# Altium integrated library NSC MiscPower.IntLib: 740 symbols (part 5 of 19)
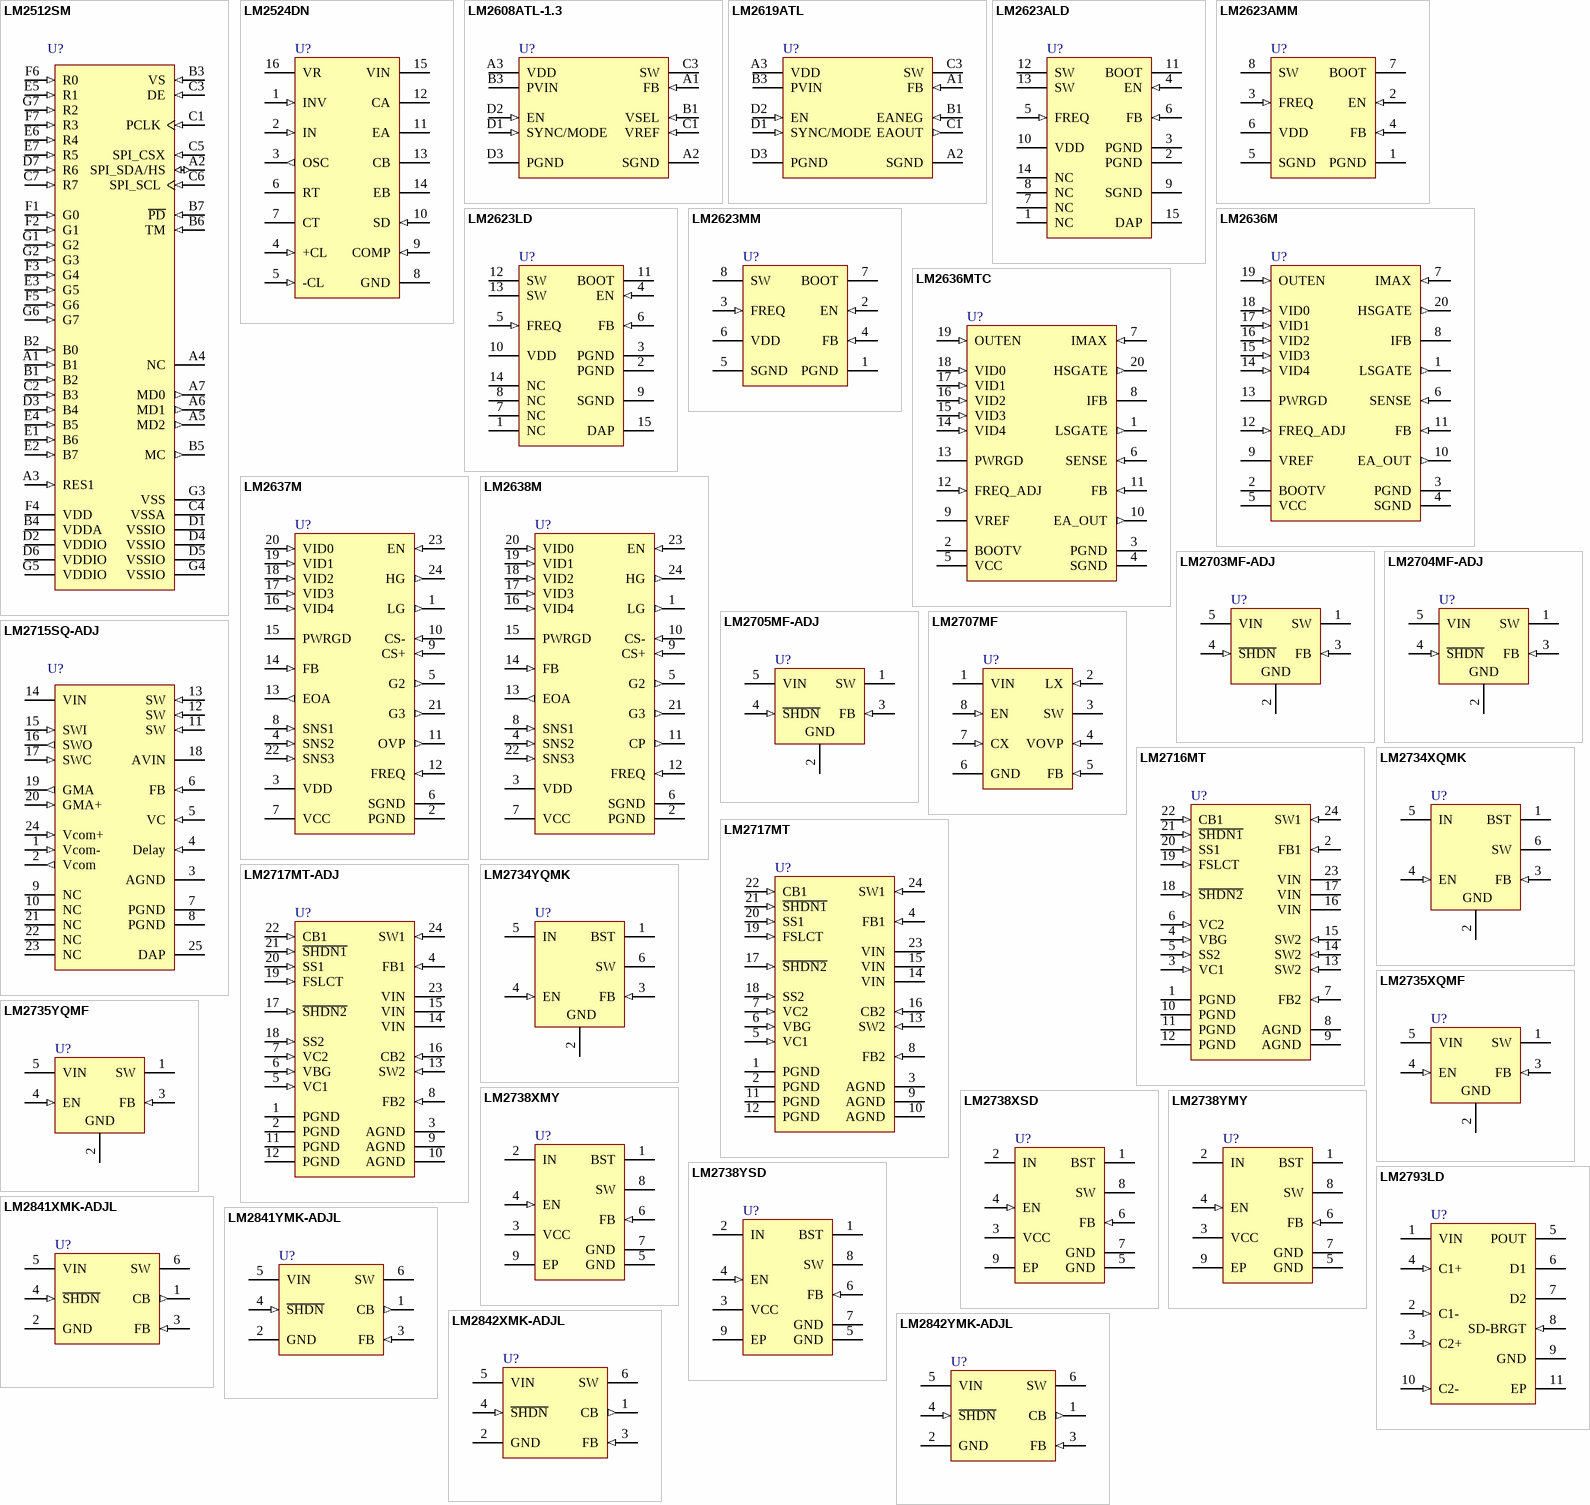
[diagram p29: symbols LM2512SM to LM2842YMK-ADJL]

## LM2637M
designator U?
Motherboard Power Supply Solution with a 5-Bit Programmable Switching Controller and Two Linear Regulator Controllers; PartNumber: LM2637M; Manufacturer: National Semiconductor; CompType: MiscPower; PackageTopMarking: NSUZXYTT*LM2637M; Published: 4-Dec-2008; DatasheetVersion: Nov-2004; PackageVersion: revF, Apr-1990; PackageReference: M24B; Publisher: Altium Limited; PackageDescription: Molded Package, S.O., .300in Wide, 24 Lead; RoHS: Y; PinCount: 24; DigiKeyPartNumber: LM2637M-ND; ComponentLink1Description: LM2637 Datasheet; ComponentLink1URL: http://www.national.com/ds/LM/LM2637.pdf; ComponentLink2Description: LM2637 Web Page; ComponentLink2URL: http://www.national.com/pf/LM/LM2637.html; ComponentLink3Description: M24B Package Page; ComponentLink3URL: http://www.national.com/packaging/folders/m24b.html
footprint M24B_N (SOIC, 24-Leads, Body 15.4x7.5mm, Pitch 1.27mm, IPC Medium Density)
footprint M24B_L (SOIC, 24-Leads, Body 15.4x7.5mm, Pitch 1.27mm, IPC High Density)
footprint M24B_M (SOIC, 24-Leads, Body 15.4x7.5mm, Pitch 1.27mm, IPC Low Density)
pins: 1 LG (out), 2 PGND (power), 3 VDD (power), 4 SNS2 (in), 5 G2 (out), 6 SGND (power), 7 VCC (power), 8 SNS1 (in), 9 CS+ (in), 10 CS- (in), 11 OVP (out), 12 FREQ (in), 13 EOA (out), 14 FB (in), 15 PWRGD (oc), 16 VID4 (in), 17 VID3 (in), 18 VID2 (in), 19 VID1 (in), 20 VID0 (in), 21 G3 (out), 22 SNS3 (in), 23 EN (in), 24 HG (out)

## LM2638M
designator U?
Motherboard Power Supply Solution with a 5-Bit Programmable Switching Controller and Two Linear Regulator Controllers; PartNumber: LM2638M; Manufacturer: National Semiconductor; CompType: MiscPower; PackageTopMarking: NSUZXYTT*LM2638M; Published: 4-Dec-2008; DatasheetVersion: May-1999; PackageVersion: revF, Apr-1990; PackageReference: M24B; Publisher: Altium Limited; PackageDescription: Molded Package, S.O., .300in Wide, 24 Lead; RoHS: N; PinCount: 24; DigiKeyPartNumber: LM2638M-ND; ComponentLink1Description: LM2638 Datasheet; ComponentLink1URL: http://www.national.com/ds/LM/LM2638.pdf; ComponentLink2Description: LM2638 Web Page; ComponentLink2URL: http://www.national.com/pf/LM/LM2638.html; ComponentLink3Description: M24B Package Page; ComponentLink3URL: http://www.national.com/packaging/folders/m24b.html
footprint M24B_N (SOIC, 24-Leads, Body 15.4x7.5mm, Pitch 1.27mm, IPC Medium Density)
footprint M24B_L (SOIC, 24-Leads, Body 15.4x7.5mm, Pitch 1.27mm, IPC High Density)
footprint M24B_M (SOIC, 24-Leads, Body 15.4x7.5mm, Pitch 1.27mm, IPC Low Density)
pins: 1 LG (out), 2 PGND (power), 3 VDD (power), 4 SNS2 (in), 5 G2 (out), 6 SGND (power), 7 VCC (power), 8 SNS1 (in), 9 CS+ (in), 10 CS- (in), 11 CP (out), 12 FREQ (in), 13 EOA (out), 14 FB (in), 15 PWRGD (oc), 16 VID4 (in), 17 VID3 (in), 18 VID2 (in), 19 VID1 (in), 20 VID0 (in), 21 G3 (out), 22 SNS3 (in), 23 EN (in), 24 HG (out)

## LM2703MF-ADJ
designator U?
Micropower Step-Up DC/DC Converter with 350mA Peak Current Limit; PartNumber: LM2703MF-ADJ; Manufacturer: National Semiconductor; CompType: MiscPower; PackageTopMarking: S48B*XTT; PowerWise: N; Published: 4-Dec-2008; DatasheetVersion: Jun-2006; PackageVersion: revD, Aug-2008; PackageReference: MF05A; Publisher: Altium Limited; PackageDescription: Molded SOT-23, .115 x .063 x .040 in Body, 5 Lead, .0375 in Pitch; RoHS: O; PinCount: 5; DigiKeyPartNumber: LM2703MF-ADJCT-ND; ComponentLink1Description: LM2703 Datasheet; ComponentLink1URL: http://www.national.com/ds/LM/LM2703.pdf; ComponentLink2Description: LM2703 Web Page; ComponentLink2URL: http://www.national.com/pf/LM/LM2703.html; ComponentLink3Description: MF05A Package Page; ComponentLink3URL: http://www.national.com/packaging/folders/mf05a.html
footprint MF05A_N (SOT23, 5-Leads, Body 2.9x1.6mm, Pitch 0.95mm, Lead Span 2.8mm, IPC Medium Density)
footprint MF05A_L (SOT23, 5-Leads, Body 2.9x1.6mm, Pitch 0.95mm, Lead Span 2.8mm, IPC High Density)
footprint MF05A_M (SOT23, 5-Leads, Body 2.9x1.6mm, Pitch 0.95mm, Lead Span 2.8mm, IPC Low Density)
pins: 1 SW (power), 2 GND (power), 3 FB (in), 4 ~{SHDN} (in), 5 VIN (power)

## LM2704MF-ADJ
designator U?
Micropower Step-up DC/DC Converter with 550mA Peak Current Limit; PartNumber: LM2704MF-ADJ; Manufacturer: National Semiconductor; CompType: MiscPower; PackageTopMarking: S28B*XTT; PowerWise: N; Published: 4-Dec-2008; DatasheetVersion: Apr-2003; PackageVersion: revD, Aug-2008; PackageReference: MF05A; Publisher: Altium Limited; PackageDescription: Molded SOT-23, .115 x .063 x .040 in Body, 5 Lead, .0375 in Pitch; RoHS: O; PinCount: 5; DigiKeyPartNumber: LM2704MF-ADJCT-ND; ComponentLink1Description: LM2704 Datasheet; ComponentLink1URL: http://www.national.com/ds/LM/LM2704.pdf; ComponentLink2Description: LM2704 Web Page; ComponentLink2URL: http://www.national.com/pf/LM/LM2704.html; ComponentLink3Description: MF05A Package Page; ComponentLink3URL: http://www.national.com/packaging/folders/mf05a.html
footprint MF05A_N (SOT23, 5-Leads, Body 2.9x1.6mm, Pitch 0.95mm, Lead Span 2.8mm, IPC Medium Density)
footprint MF05A_L (SOT23, 5-Leads, Body 2.9x1.6mm, Pitch 0.95mm, Lead Span 2.8mm, IPC High Density)
footprint MF05A_M (SOT23, 5-Leads, Body 2.9x1.6mm, Pitch 0.95mm, Lead Span 2.8mm, IPC Low Density)
pins: 1 SW (power), 2 GND (power), 3 FB (in), 4 ~{SHDN} (in), 5 VIN (power)

## LM2705MF-ADJ
designator U?
Micropower Step-up DC/DC Converter with 150mA Peak Current Limit; PartNumber: LM2705MF-ADJ; Manufacturer: National Semiconductor; CompType: MiscPower; PackageTopMarking: S59B*XTT; PowerWise: N; Published: 4-Dec-2008; DatasheetVersion: Aug-2007; PackageVersion: revD, Aug-2008; PackageReference: MF05A; Publisher: Altium Limited; PackageDescription: Molded SOT-23, .115 x .063 x .040 in Body, 5 Lead, .0375 in Pitch; RoHS: O; PinCount: 5; DigiKeyPartNumber: LM2705MF-ADJCT-ND; ComponentLink1Description: LM2705 Datasheet; ComponentLink1URL: http://www.national.com/ds/LM/LM2705.pdf; ComponentLink2Description: LM2705 Web Page; ComponentLink2URL: http://www.national.com/pf/LM/LM2705.html; ComponentLink3Description: MF05A Package Page; ComponentLink3URL: http://www.national.com/packaging/folders/mf05a.html
footprint MF05A_N (SOT23, 5-Leads, Body 2.9x1.6mm, Pitch 0.95mm, Lead Span 2.8mm, IPC Medium Density)
footprint MF05A_L (SOT23, 5-Leads, Body 2.9x1.6mm, Pitch 0.95mm, Lead Span 2.8mm, IPC High Density)
footprint MF05A_M (SOT23, 5-Leads, Body 2.9x1.6mm, Pitch 0.95mm, Lead Span 2.8mm, IPC Low Density)
pins: 1 SW (power), 2 GND (power), 3 FB (in), 4 ~{SHDN} (in), 5 VIN (power)

## LM2707MF
designator U?
Inductive-Boost Series LED Driver with Programmable Oscillator Frequency; PartNumber: LM2707MF; Manufacturer: National Semiconductor; CompType: MiscPower; PackageTopMarking: S0TB*XTT; Published: 4-Dec-2008; DatasheetVersion: Feb-2005; PackageVersion: revA, Nov-2003; PackageReference: MF08A; Publisher: Altium Limited; PackageDescription: Molded SOT-23, 3.5 x 2.2 x 1.2mm Body, 8 Lead, 0.8mm Pitch; RoHS: Y; PinCount: 8; DigiKeyPartNumber: LM2707MF-ND; ComponentLink1Description: LM2707 Datasheet; ComponentLink1URL: http://www.national.com/ds/LM/LM2707.pdf; ComponentLink2Description: LM2707 Web Page; ComponentLink2URL: http://www.national.com/pf/LM/LM2707.html; ComponentLink3Description: MF08A Package Page; ComponentLink3URL: http://www.national.com/packaging/folders/mf08a.html
footprint MF08A_N (SOP, 8-Leads, Body 3.5x2.2mm, Pitch 0.8mm, IPC Medium Density)
footprint MF08A_L (SOP, 8-Leads, Body 3.5x2.2mm, Pitch 0.8mm, IPC High Density)
footprint MF08A_M (SOP, 8-Leads, Body 3.5x2.2mm, Pitch 0.8mm, IPC Low Density)
pins: 1 VIN (power), 2 LX (in), 3 SW (power), 4 VOVP (in), 5 FB (in), 6 GND (power), 7 CX (in), 8 EN (in)

## LM2715SQ-ADJ
designator U?
TFT Panel Module; PartNumber: LM2715SQ-ADJ; Manufacturer: National Semiconductor; CompType: MiscPower; PackageTopMarking: NS*UZXYTT*L2715SQ; PowerWise: N; Published: 4-Dec-2008; DatasheetVersion: Apr-2006; PackageVersion: revA, Oct-2003; PackageReference: SQA24B; Publisher: Altium Limited; PackageDescription: LLP, Plastic, Quad, 5 x 4 x 0.8mm Body, 24 Lead, 0.5mm Pitch, No Pullback; RoHS: Y; PinCount: 24; DigiKeyPartNumber: LM2715SQ-ADJ-ND; Code_JEDEC: MO-220-WGHD-1; ComponentLink1Description: LM2715 Datasheet; ComponentLink1URL: http://www.national.com/ds/LM/LM2715.pdf; ComponentLink2Description: LM2715 Web Page; ComponentLink2URL: http://www.national.com/pf/LM/LM2715.html; ComponentLink3Description: SQA24B Package Page; ComponentLink3URL: http://www.national.com/packaging/folders/sqa24b.html
footprint SQA24B (QFN, 24-Leads, Body 5x4mm, Pitch 0.5mm, NSC Recommended)
pins: 1 Vcom- (in) "Vcom Amplifier negative input.", 2 Vcom (out) "Vcom Amplifier output.", 3 AGND (power) "Analog Ground. Connect to AGND plane.", 4 Delay (in) "PMOS switch delay.", 5 VC (in) "Boost Compensation Network Connection.", 6 FB (in) "Output Voltage Feedback input.", 7 PGND (power) "Power Ground. Connect to PGND plane.", 8 PGND (power) "Power Ground. Connect to PGND plane.", 9 NC "Not internally connected. Leave floating or connect to Ground.", 10 NC "Not internally connected. Leave floating or connect to Ground.", 11 SW (in) "NMOS power switch input.", 12 SW (in) "NMOS power switch input.", 13 SW (in) "NMOS power switch input.", 14 VIN (power) "Main power input, step-up and switch circuitry.", 15 SWI (in) "PMOS switch input.", 16 SWO (out) "PMOS switch output.", 17 SWC (in) "PMOS switch control pin.", 18 AVIN (power) "Analog power input (buffers).", 19 GMA (out) "Gamma buffer output.", 20 GMA+ (in) "Gamma buffer input.", 21 NC "Not internally connected. Leave floating or connect to Ground.", 22 NC "Not internally connected. Leave floating or connect to Ground.", 23 NC "Not internally connected. Leave floating or connect to Ground.", 24 Vcom+ (in) "Vcom Amplifier positive input.", 25 DAP (power) "Center Die Attach Pad. Connect directly to AGND and PGND pins beneath the device."

## LM2716MT
designator U?
Dual (Step-Up and Step-Down) PWM DC/DC Converter; PartNumber: LM2716MT; Manufacturer: National Semiconductor; CompType: MiscPower; PackageTopMarking: NSUZXYTT*LM2716MT; Published: 4-Dec-2008; DatasheetVersion: Nov-2005; PackageVersion: revE, Mar-2003; PackageReference: MTC24; Publisher: Altium Limited; PackageDescription: Molded TSSOP, Jedec, 7.8 x 4.4 x 0.9mm Body, 24 Lead, 0.65mm Pitch; RoHS: Y; PinCount: 24; DigiKeyPartNumber: LM2716MT-ND; Code_JEDEC: MO-153-AD; ComponentLink1Description: LM2716 Datasheet; ComponentLink1URL: http://www.national.com/ds/LM/LM2716.pdf; ComponentLink2Description: LM2716 Web Page; ComponentLink2URL: http://www.national.com/pf/LM/LM2716.html; ComponentLink3Description: MTC24 Package Page; ComponentLink3URL: http://www.national.com/packaging/folders/mtc24.html
footprint MTC24_N (TSOP, 24-Leads, Body 7.8x4.4mm, Pitch 0.65mm, IPC Medium Density)
footprint MTC24_L (TSOP, 24-Leads, Body 7.8x4.4mm, Pitch 0.65mm, IPC High Density)
footprint MTC24_M (TSOP, 24-Leads, Body 7.8x4.4mm, Pitch 0.65mm, IPC Low Density)
pins: 1 PGND (power) "Power ground. AGND and PGND pins must be connected together directly at the part.", 2 FB1 (in) "Buck output voltage feedback input.", 3 VC1 (in) "Buck compensation network connection. Connected to the output of the voltage error amplifier.", 4 VBG (in) "Bandgap connection.", 5 SS2 (in) "Boost soft start pin.", 6 VC2 (in) "Boost compensation network connection. Connected to the output of the voltage error amplifier.", 7 FB2 (in) "Boost output voltage feedback input.", 8 AGND (power) "Analog ground. AGND and PGND pins must be connected together directly at the part.", 9 AGND (power) "Analog ground. AGND and PGND pins must be connected together directly at the part.", 10 PGND (power) "Power ground. AGND and PGND pins must be connected together directly at the part.", 11 PGND (power) "Power ground. AGND and PGND pins must be connected together directly at the part.", 12 PGND (power) "Power ground. AGND and PGND pins must be connected together directly at the part.", 13 SW2 (in) "Boost power switch input.", 14 SW2 (in) "Boost power switch input.", 15 SW2 (in) "Boost power switch input.", 16 VIN (power) "Analog power input. VIN pins must be connected together directly at the DUT.", 17 VIN (power) "Analog power input. VIN pins must be connected together directly at the DUT.", 18 ~{SHDN2} (in) "Shutdown pin for Boost converter. Active low.", 19 FSLCT (in) "Switching frequency select input.", 20 SS1 (in) "Buck soft start pin.", 21 ~{SHDN1} (in) "Shutdown pin for Buck converter. Active low.", 22 CB1 (in) "Buck converter bootstrap capacitor connection.", 23 VIN (power) "Analog power input. VIN pins must be connected together directly at the DUT.", 24 SW1 (in) "Buck power switch input. Switch connected between VIN pins and SW1 pin."

## LM2717MT
designator U?
Dual Step-Down DC/DC Converter; PartNumber: LM2717MT; Manufacturer: National Semiconductor; CompType: MiscPower; PackageTopMarking: NSUZXYTT*LM2717MT; PowerWise: N; Published: 4-Dec-2008; DatasheetVersion: Mar-2008; PackageVersion: revE, Mar-2003; PackageReference: MTC24; Publisher: Altium Limited; PackageDescription: Molded TSSOP, Jedec, 7.8 x 4.4 x 0.9mm Body, 24 Lead, 0.65mm Pitch; RoHS: Y; PinCount: 24; DigiKeyPartNumber: LM2717MT-ND; Code_JEDEC: MO-153-AD; ComponentLink1Description: LM2717 Datasheet; ComponentLink1URL: http://www.national.com/ds/LM/LM2717.pdf; ComponentLink2Description: LM2717 Web Page; ComponentLink2URL: http://www.national.com/pf/LM/LM2717.html; ComponentLink3Description: MTC24 Package Page; ComponentLink3URL: http://www.national.com/packaging/folders/mtc24.html
footprint MTC24_N (TSOP, 24-Leads, Body 7.8x4.4mm, Pitch 0.65mm, IPC Medium Density)
footprint MTC24_L (TSOP, 24-Leads, Body 7.8x4.4mm, Pitch 0.65mm, IPC High Density)
footprint MTC24_M (TSOP, 24-Leads, Body 7.8x4.4mm, Pitch 0.65mm, IPC Low Density)
pins: 1 PGND (power) "Power ground. AGND and PGND pins must be connected together directly at the part.", 2 PGND (power) "Power ground. AGND and PGND pins must be connected together directly at the part.", 3 AGND (power) "Analog ground. AGND and PGND pins must be connected together directly at the part.", 4 FB1 (in) "Fixed buck output voltage feedback input.", 5 VC1 (in) "Fixed buck compensation network connection. Connected to the output of the voltage error amplifier.", 6 VBG (in) "Bandgap connection.", 7 VC2 (in) "Adjustable buck compensation network connection.", 8 FB2 (in) "Adjustable buck output voltage feedback input.", 9 AGND (power) "Analog ground. AGND and PGND pins must be connected together directly at the part.", 10 AGND (power) "Analog ground. AGND and PGND pins must be connected together directly at the part.", 11 PGND (power) "Power ground. AGND and PGND pins must be connected together directly at the part.", 12 PGND (power) "Power ground. AGND and PGND pins must be connected together directly at the part.", 13 SW2 (in) "Adjustable buck power switch input.", 14 VIN (power) "Analog power input.", 15 VIN (power) "Analog power input.", 16 CB2 (in) "Adjustable buck converter bootstrap capacitor connection.", 17 ~{SHDN2} (in) "Shutdown pin for adjustable buck converter. Active low.", 18 SS2 (in) "Adjustable buck soft start pin.", 19 FSLCT (in) "Switching frequency select input.", 20 SS1 (in) "Fixed buck soft start pin.", 21 ~{SHDN1} (in) "Shutdown pin for fixed buck converter. Active low.", 22 CB1 (in) "Fixed buck converter bootstrap capacitor connection.", 23 VIN (power) "Analog power input.", 24 SW1 (in) "Fixed buck power switch input. Switch connected between VIN pins and SW1 pin."

## LM2717MT-ADJ
designator U?
Dual Step-Down DC/DC Converter; PartNumber: LM2717MT-ADJ; Manufacturer: National Semiconductor; CompType: MiscPower; PackageTopMarking: NSUZXYTT*LM2717*MT-ADJ; PowerWise: N; Published: 4-Dec-2008; DatasheetVersion: Mar-2008; PackageVersion: revE, Mar-2003; PackageReference: MTC24; Publisher: Altium Limited; PackageDescription: Molded TSSOP, Jedec, 7.8 x 4.4 x 0.9mm Body, 24 Lead, 0.65mm Pitch; RoHS: Y; PinCount: 24; DigiKeyPartNumber: LM2717MT-ADJ-ND; Code_JEDEC: MO-153-AD; ComponentLink1Description: LM2717 Datasheet; ComponentLink1URL: http://www.national.com/ds/LM/LM2717-ADJ.pdf; ComponentLink2Description: LM2717 Web Page; ComponentLink2URL: http://www.national.com/pf/LM/LM2717.html; ComponentLink3Description: MTC24 Package Page; ComponentLink3URL: http://www.national.com/packaging/folders/mtc24.html
footprint MTC24_N (TSOP, 24-Leads, Body 7.8x4.4mm, Pitch 0.65mm, IPC Medium Density)
footprint MTC24_L (TSOP, 24-Leads, Body 7.8x4.4mm, Pitch 0.65mm, IPC High Density)
footprint MTC24_M (TSOP, 24-Leads, Body 7.8x4.4mm, Pitch 0.65mm, IPC Low Density)
pins: 1 PGND (power) "Power ground. AGND and PGND pins must be connected together directly at the part.", 2 PGND (power) "Power ground. AGND and PGND pins must be connected together directly at the part.", 3 AGND (power) "Analog ground. AGND and PGND pins must be connected together directly at the part.", 4 FB1 (in) "Fixed buck output voltage feedback input.", 5 VC1 (in) "Fixed buck compensation network connection. Connected to the output of the voltage error amplifier.", 6 VBG (in) "Bandgap connection.", 7 VC2 (in) "Adjustable buck compensation network connection.", 8 FB2 (in) "Adjustable buck output voltage feedback input.", 9 AGND (power) "Analog ground. AGND and PGND pins must be connected together directly at the part.", 10 AGND (power) "Analog ground. AGND and PGND pins must be connected together directly at the part.", 11 PGND (power) "Power ground. AGND and PGND pins must be connected together directly at the part.", 12 PGND (power) "Power ground. AGND and PGND pins must be connected together directly at the part.", 13 SW2 (in) "Adjustable buck power switch input.", 14 VIN (power) "Analog power input.", 15 VIN (power) "Analog power input.", 16 CB2 (in) "Adjustable buck converter bootstrap capacitor connection.", 17 ~{SHDN2} (in) "Shutdown pin for adjustable buck converter. Active low.", 18 SS2 (in) "Adjustable buck soft start pin.", 19 FSLCT (in) "Switching frequency select input.", 20 SS1 (in) "Fixed buck soft start pin.", 21 ~{SHDN1} (in) "Shutdown pin for fixed buck converter. Active low.", 22 CB1 (in) "Fixed buck converter bootstrap capacitor connection.", 23 VIN (power) "Analog power input.", 24 SW1 (in) "Fixed buck power switch input. Switch connected between VIN pins and SW1 pin."

## LM2734XQMK
designator U?
Thin SOT23 1A Load Step-Down DC-DC Regulator; PartNumber: LM2734XQMK; Manufacturer: National Semiconductor; CompType: MiscPower; PackageTopMarking: SUKB*XTT; PowerWise: N; Published: 4-Dec-2008; DatasheetVersion: Jun-2008; PackageVersion: revD, Jul-2005; PackageReference: MK06A; Publisher: Altium Limited; PackageDescription: Molded TSOT, 2.97 x 1.65 x 0.87mm Body, 6 Lead, 0.95mm Pitch; RoHS: Y; PinCount: 6; DigiKeyPartNumber: LM2734XQMK-ND; Code_JEDEC: MO-193-AA; Code_IPC: SOT26A-6; ComponentLink1Description: LM2734 Datasheet; ComponentLink1URL: http://www.national.com/ds/LM/LM2734.pdf; ComponentLink2Description: LM2734 Web Page; ComponentLink2URL: http://www.national.com/pf/LM/LM2734.html; ComponentLink3Description: MK06A Package Page; ComponentLink3URL: http://www.national.com/packaging/folders/mk06a.html
footprint MK06A_N (SOT23, 6-Leads, Body 3.0x1.7mm, Pitch 0.95mm, Lead Span 2.9mm, IPC Medium Density)
footprint MK06A_L (SOT23, 6-Leads, Body 3.0x1.7mm, Pitch 0.95mm, Lead Span 2.9mm, IPC High Density)
footprint MK06A_M (SOT23, 6-Leads, Body 3.0x1.7mm, Pitch 0.95mm, Lead Span 2.9mm, IPC Low Density)
pins: 1 BST, 2 GND (power), 3 FB (in), 4 EN (in), 5 IN (power), 6 SW (power)

## LM2734YQMK
designator U?
Thin SOT23 1A Load Step-Down DC-DC Regulator; PartNumber: LM2734YQMK; Manufacturer: National Semiconductor; CompType: MiscPower; PackageTopMarking: SVCB*XTT; PowerWise: N; Published: 4-Dec-2008; DatasheetVersion: Jun-2008; PackageVersion: revD, Jul-2005; PackageReference: MK06A; Publisher: Altium Limited; PackageDescription: Molded TSOT, 2.97 x 1.65 x 0.87mm Body, 6 Lead, 0.95mm Pitch; RoHS: Y; PinCount: 6; DigiKeyPartNumber: LM2734YQMK-ND; Code_JEDEC: MO-193-AA; Code_IPC: SOT26A-6; ComponentLink1Description: LM2734 Datasheet; ComponentLink1URL: http://www.national.com/ds/LM/LM2734.pdf; ComponentLink2Description: LM2734 Web Page; ComponentLink2URL: http://www.national.com/pf/LM/LM2734.html; ComponentLink3Description: MK06A Package Page; ComponentLink3URL: http://www.national.com/packaging/folders/mk06a.html
footprint MK06A_N (SOT23, 6-Leads, Body 3.0x1.7mm, Pitch 0.95mm, Lead Span 2.9mm, IPC Medium Density)
footprint MK06A_L (SOT23, 6-Leads, Body 3.0x1.7mm, Pitch 0.95mm, Lead Span 2.9mm, IPC High Density)
footprint MK06A_M (SOT23, 6-Leads, Body 3.0x1.7mm, Pitch 0.95mm, Lead Span 2.9mm, IPC Low Density)
pins: 1 BST, 2 GND (power), 3 FB (in), 4 EN (in), 5 IN (power), 6 SW (power)

## LM2735XQMF
designator U?
520kHz/1.6MHz - Space-Efficient Boost and SEPIC DC-DC Regulator; PartNumber: LM2735XQMF; Manufacturer: National Semiconductor; CompType: MiscPower; PackageTopMarking: SVDB*XTT; PowerWise: N; Published: 29-May-2009; DatasheetVersion: Feb-2009; PackageVersion: revD, Aug-2008; PackageReference: MF05A; Publisher: Altium Limited; PackageDescription: Molded SOT-23, .115 x .063 x .040 in Body, 5 Lead, .0375 in Pitch; RoHS: Y; PinCount: 5; DigiKeyPartNumber: LM2735XQMFCT-ND; ComponentLink1Description: LM2735 Datasheet; ComponentLink1URL: http://www.national.com/ds/LM/LM2735.pdf; ComponentLink2Description: LM2735 Web Page; ComponentLink2URL: http://www.national.com/pf/LM/LM2735.html; ComponentLink3Description: MF05A Package Page; ComponentLink3URL: http://www.national.com/packaging/folders/mf05a.html
footprint MF05A_N (SOT23, 5-Leads, Body 2.9x1.6mm, Pitch 0.95mm, Lead Span 2.8mm, IPC Medium Density)
footprint MF05A_L (SOT23, 5-Leads, Body 2.9x1.6mm, Pitch 0.95mm, Lead Span 2.8mm, IPC High Density)
footprint MF05A_M (SOT23, 5-Leads, Body 2.9x1.6mm, Pitch 0.95mm, Lead Span 2.8mm, IPC Low Density)
pins: 1 SW (power), 2 GND (power), 3 FB (in), 4 EN (in), 5 VIN (power)

## LM2735YQMF
designator U?
520kHz/1.6MHz - Space-Efficient Boost and SEPIC DC-DC Regulator; PartNumber: LM2735YQMF; Manufacturer: National Semiconductor; CompType: MiscPower; PackageTopMarking: SXUB*XTT; PowerWise: N; Published: 29-May-2009; DatasheetVersion: Feb-2009; PackageVersion: revD, Aug-2008; PackageReference: MF05A; Publisher: Altium Limited; PackageDescription: Molded SOT-23, .115 x .063 x .040 in Body, 5 Lead, .0375 in Pitch; RoHS: Y; PinCount: 5; DigiKeyPartNumber: LM2735YQMFCT-ND; ComponentLink1Description: LM2735 Datasheet; ComponentLink1URL: http://www.national.com/ds/LM/LM2735.pdf; ComponentLink2Description: LM2735 Web Page; ComponentLink2URL: http://www.national.com/pf/LM/LM2735.html; ComponentLink3Description: MF05A Package Page; ComponentLink3URL: http://www.national.com/packaging/folders/mf05a.html
footprint MF05A_N (SOT23, 5-Leads, Body 2.9x1.6mm, Pitch 0.95mm, Lead Span 2.8mm, IPC Medium Density)
footprint MF05A_L (SOT23, 5-Leads, Body 2.9x1.6mm, Pitch 0.95mm, Lead Span 2.8mm, IPC High Density)
footprint MF05A_M (SOT23, 5-Leads, Body 2.9x1.6mm, Pitch 0.95mm, Lead Span 2.8mm, IPC Low Density)
pins: 1 SW (power), 2 GND (power), 3 FB (in), 4 EN (in), 5 VIN (power)

## LM2738XMY
designator U?
550kHz/1.6MHz 1.5A Step-Down DC-DC Switching Regulator; PartNumber: LM2738XMY; Manufacturer: National Semiconductor; CompType: MiscPower; PackageTopMarking: ZXTT*STDB; PowerWise: N; Published: 4-Dec-2008; DatasheetVersion: Apr-2008; PackageVersion: revA, Nov-2003; PackageReference: MUY08A; Publisher: Altium Limited; PackageDescription: Molded Mini-SO, Exposed Pad, .118 x .118 x .034in Body, 8 Lead, .0256in Pitch; RoHS: Y; PinCount: 8; DigiKeyPartNumber: LM2738XMYCT-ND; Code_JEDEC: MO-187-AA; ComponentLink1Description: LM2738 Datasheet; ComponentLink1URL: http://www.national.com/ds/LM/LM2738.pdf; ComponentLink2Description: LM2738 Web Page; ComponentLink2URL: http://www.national.com/pf/LM/LM2738.html; ComponentLink3Description: MUY08A Package Page; ComponentLink3URL: http://www.national.com/packaging/folders/muy08a.html
footprint MUY08A_N (TSOP, 8-Leads, Body 3x3mm, Pitch 0.65mm, Exposed Pad, IPC Medium Density)
footprint MUY08A_L (TSOP, 8-Leads, Body 3x3mm, Pitch 0.65mm, Exposed Pad, IPC High Density)
footprint MUY08A_M (TSOP, 8-Leads, Body 3x3mm, Pitch 0.65mm, Exposed Pad, IPC Low Density)
pins: 1 BST, 2 IN (power), 3 VCC (power), 4 EN (in), 5 GND (power), 6 FB (in), 7 GND (power), 8 SW (power), 9 EP (power)

## LM2738XSD
designator U?
550kHz/1.6MHz 1.5A Step-Down DC-DC Switching Regulator; PartNumber: LM2738XSD; Manufacturer: National Semiconductor; CompType: MiscPower; PackageTopMarking: ZXYTT*L237B; PowerWise: N; Published: 4-Dec-2008; DatasheetVersion: Apr-2008; PackageVersion: revA, Aug-2003; PackageReference: SDA08A; Publisher: Altium Limited; PackageDescription: LLP, Plastic, Dual, 3 x 3 x 0.8mm Body, 8 Lead, 0.5mm Pitch, No Pullback; RoHS: Y; PinCount: 8; DigiKeyPartNumber: LM2738XSDCT-ND; ComponentLink1Description: LM2738 Datasheet; ComponentLink1URL: http://www.national.com/ds/LM/LM2738.pdf; ComponentLink2Description: LM2738 Web Page; ComponentLink2URL: http://www.national.com/pf/LM/LM2738.html; ComponentLink3Description: SDA08A Package Page; ComponentLink3URL: http://www.national.com/packaging/folders/sda08a.html
footprint SDA08A (SON, 8-Leads, Body 3x3mm, Pitch 0.5mm, NSC Recommended)
pins: 1 BST, 2 IN (power), 3 VCC (power), 4 EN (in), 5 GND (power), 6 FB (in), 7 GND (power), 8 SW (power), 9 EP (power)

## LM2738YMY
designator U?
550kHz/1.6MHz 1.5A Step-Down DC-DC Switching Regulator; PartNumber: LM2738YMY; Manufacturer: National Semiconductor; CompType: MiscPower; PackageTopMarking: ZXTT*SJBB; PowerWise: N; Published: 4-Dec-2008; DatasheetVersion: Apr-2008; PackageVersion: revA, Nov-2003; PackageReference: MUY08A; Publisher: Altium Limited; PackageDescription: Molded Mini-SO, Exposed Pad, .118 x .118 x .034in Body, 8 Lead, .0256in Pitch; RoHS: Y; PinCount: 8; DigiKeyPartNumber: LM2738YMYCT-ND; Code_JEDEC: MO-187-AA; ComponentLink1Description: LM2738 Datasheet; ComponentLink1URL: http://www.national.com/ds/LM/LM2738.pdf; ComponentLink2Description: LM2738 Web Page; ComponentLink2URL: http://www.national.com/pf/LM/LM2738.html; ComponentLink3Description: MUY08A Package Page; ComponentLink3URL: http://www.national.com/packaging/folders/muy08a.html
footprint MUY08A_N (TSOP, 8-Leads, Body 3x3mm, Pitch 0.65mm, Exposed Pad, IPC Medium Density)
footprint MUY08A_L (TSOP, 8-Leads, Body 3x3mm, Pitch 0.65mm, Exposed Pad, IPC High Density)
footprint MUY08A_M (TSOP, 8-Leads, Body 3x3mm, Pitch 0.65mm, Exposed Pad, IPC Low Density)
pins: 1 BST, 2 IN (power), 3 VCC (power), 4 EN (in), 5 GND (power), 6 FB (in), 7 GND (power), 8 SW (power), 9 EP (power)

## LM2738YSD
designator U?
550kHz/1.6MHz 1.5A Step-Down DC-DC Switching Regulator; PartNumber: LM2738YSD; Manufacturer: National Semiconductor; CompType: MiscPower; PackageTopMarking: ZXYTT*L174B; PowerWise: N; Published: 4-Dec-2008; DatasheetVersion: Apr-2008; PackageVersion: revA, Aug-2003; PackageReference: SDA08A; Publisher: Altium Limited; PackageDescription: LLP, Plastic, Dual, 3 x 3 x 0.8mm Body, 8 Lead, 0.5mm Pitch, No Pullback; RoHS: Y; PinCount: 8; DigiKeyPartNumber: LM2738YSDCT-ND; ComponentLink1Description: LM2738 Datasheet; ComponentLink1URL: http://www.national.com/ds/LM/LM2738.pdf; ComponentLink2Description: LM2738 Web Page; ComponentLink2URL: http://www.national.com/pf/LM/LM2738.html; ComponentLink3Description: SDA08A Package Page; ComponentLink3URL: http://www.national.com/packaging/folders/sda08a.html
footprint SDA08A (SON, 8-Leads, Body 3x3mm, Pitch 0.5mm, NSC Recommended)
pins: 1 BST, 2 IN (power), 3 VCC (power), 4 EN (in), 5 GND (power), 6 FB (in), 7 GND (power), 8 SW (power), 9 EP (power)

## LM2793LD
designator U?
Low Noise White LED Constant Current Supply with Dual Function Brightness Control; PartNumber: LM2793LD; Manufacturer: National Semiconductor; CompType: MiscPower; PackageTopMarking: ZXYTT*L2793; Published: 4-Dec-2008; DatasheetVersion: Feb-2003; PackageVersion: revB, Jan-2003; PackageReference: LDA10A; Publisher: Altium Limited; PackageDescription: LLP, Plastic, Dual, 3 x 3 x 0.75mm Body, 10 Lead, 0.5mm Pitch; RoHS: Y; PinCount: 10; DigiKeyPartNumber: LM2793LDEV-ND; ComponentLink1Description: LM2793 Datasheet; ComponentLink1URL: http://www.national.com/ds/LM/LM2793.pdf; ComponentLink2Description: LM2793 Web Page; ComponentLink2URL: http://www.national.com/pf/LM/LM2793.html; ComponentLink3Description: LDA10A Package Page; ComponentLink3URL: http://www.national.com/packaging/folders/lda10a.html
footprint LDA10A (PSON, 10-Leads, Body 3x3mm, Pitch 0.5mm, NSC Recommended)
pins: 1 VIN (power), 2 C1- (in), 3 C2+ (in), 4 C1+ (in), 5 POUT (power), 6 D1 (oc), 7 D2 (oc), 8 SD-BRGT (in), 9 GND (power), 10 C2- (in), 11 EP (power)

## LM2841XMK-ADJL
designator U?
300 mA/600 mA up to 42V Input Step-Down DC/DC Regulator in Thin SOT-23; PartNumber: LM2841XMK-ADJL; Manufacturer: National Semiconductor; CompType: MiscPower; PackageTopMarking: STFB*XTT; PowerWise: N; Published: 29-May-2009; DatasheetVersion: Apr-2009; PackageVersion: revD, Jul-2005; PackageReference: MK06A; Publisher: Altium Limited; PackageDescription: Molded TSOT, 2.97 x 1.65 x 0.87mm Body, 6 Lead, 0.95mm Pitch; RoHS: Y; PinCount: 6; DigiKeyPartNumber: LM2841XMK-ADJLCT-ND; Code_JEDEC: MO-193-AA; Code_IPC: SOT26A-6; ComponentLink1Description: LM2841 Datasheet; ComponentLink1URL: http://www.national.com/ds/LM/LM2841.pdf; ComponentLink2Description: LM2841 Web Page; ComponentLink2URL: http://www.national.com/pf/LM/LM2841.html; ComponentLink3Description: MK06A Package Page; ComponentLink3URL: http://www.national.com/packaging/folders/mk06a.html
footprint MK06A_N (SOT23, 6-Leads, Body 3.0x1.7mm, Pitch 0.95mm, Lead Span 2.9mm, IPC Medium Density)
footprint MK06A_L (SOT23, 6-Leads, Body 3.0x1.7mm, Pitch 0.95mm, Lead Span 2.9mm, IPC High Density)
footprint MK06A_M (SOT23, 6-Leads, Body 3.0x1.7mm, Pitch 0.95mm, Lead Span 2.9mm, IPC Low Density)
pins: 1 CB (out), 2 GND (power), 3 FB (in), 4 ~{SHDN} (in), 5 VIN (power), 6 SW (power)

## LM2841YMK-ADJL
designator U?
300 mA/600 mA up to 42V Input Step-Down DC/DC Regulator in Thin SOT-23; PartNumber: LM2841YMK-ADJL; Manufacturer: National Semiconductor; CompType: MiscPower; PackageTopMarking: STTB*XTT; PowerWise: N; Published: 29-May-2009; DatasheetVersion: Apr-2009; PackageVersion: revD, Jul-2005; PackageReference: MK06A; Publisher: Altium Limited; PackageDescription: Molded TSOT, 2.97 x 1.65 x 0.87mm Body, 6 Lead, 0.95mm Pitch; RoHS: Y; PinCount: 6; DigiKeyPartNumber: LM2841YMK-ADJLCT-ND; Code_JEDEC: MO-193-AA; Code_IPC: SOT26A-6; ComponentLink1Description: LM2841 Datasheet; ComponentLink1URL: http://www.national.com/ds/LM/LM2841.pdf; ComponentLink2Description: LM2841 Web Page; ComponentLink2URL: http://www.national.com/pf/LM/LM2841.html; ComponentLink3Description: MK06A Package Page; ComponentLink3URL: http://www.national.com/packaging/folders/mk06a.html
footprint MK06A_N (SOT23, 6-Leads, Body 3.0x1.7mm, Pitch 0.95mm, Lead Span 2.9mm, IPC Medium Density)
footprint MK06A_L (SOT23, 6-Leads, Body 3.0x1.7mm, Pitch 0.95mm, Lead Span 2.9mm, IPC High Density)
footprint MK06A_M (SOT23, 6-Leads, Body 3.0x1.7mm, Pitch 0.95mm, Lead Span 2.9mm, IPC Low Density)
pins: 1 CB (out), 2 GND (power), 3 FB (in), 4 ~{SHDN} (in), 5 VIN (power), 6 SW (power)

## LM2842XMK-ADJL
designator U?
300 mA/600 mA up to 42V Input Step-Down DC/DC Regulator in Thin SOT-23; PartNumber: LM2842XMK-ADJL; Manufacturer: National Semiconductor; CompType: MiscPower; PackageTopMarking: STVB*XTT; PowerWise: N; Published: 29-May-2009; DatasheetVersion: Apr-2009; PackageVersion: revD, Jul-2005; PackageReference: MK06A; Publisher: Altium Limited; PackageDescription: Molded TSOT, 2.97 x 1.65 x 0.87mm Body, 6 Lead, 0.95mm Pitch; RoHS: Y; PinCount: 6; DigiKeyPartNumber: LM2842XMK-ADJLCT-ND; Code_JEDEC: MO-193-AA; Code_IPC: SOT26A-6; ComponentLink1Description: LM2841 Datasheet; ComponentLink1URL: http://www.national.com/ds/LM/LM2841.pdf; ComponentLink2Description: LM2842 Web Page; ComponentLink2URL: http://www.national.com/pf/LM/LM2842.html; ComponentLink3Description: MK06A Package Page; ComponentLink3URL: http://www.national.com/packaging/folders/mk06a.html
footprint MK06A_N (SOT23, 6-Leads, Body 3.0x1.7mm, Pitch 0.95mm, Lead Span 2.9mm, IPC Medium Density)
footprint MK06A_L (SOT23, 6-Leads, Body 3.0x1.7mm, Pitch 0.95mm, Lead Span 2.9mm, IPC High Density)
footprint MK06A_M (SOT23, 6-Leads, Body 3.0x1.7mm, Pitch 0.95mm, Lead Span 2.9mm, IPC Low Density)
pins: 1 CB (out), 2 GND (power), 3 FB (in), 4 ~{SHDN} (in), 5 VIN (power), 6 SW (power)

## LM2842YMK-ADJL
designator U?
300 mA/600 mA up to 42V Input Step-Down DC/DC Regulator in Thin SOT-23; PartNumber: LM2842YMK-ADJL; Manufacturer: National Semiconductor; CompType: MiscPower; PackageTopMarking: STXB*XTT; PowerWise: N; Published: 29-May-2009; DatasheetVersion: Apr-2009; PackageVersion: revD, Jul-2005; PackageReference: MK06A; Publisher: Altium Limited; PackageDescription: Molded TSOT, 2.97 x 1.65 x 0.87mm Body, 6 Lead, 0.95mm Pitch; RoHS: Y; PinCount: 6; DigiKeyPartNumber: LM2842YMK-ADJLCT-ND; Code_JEDEC: MO-193-AA; Code_IPC: SOT26A-6; ComponentLink1Description: LM2841 Datasheet; ComponentLink1URL: http://www.national.com/ds/LM/LM2841.pdf; ComponentLink2Description: LM2842 Web Page; ComponentLink2URL: http://www.national.com/pf/LM/LM2842.html; ComponentLink3Description: MK06A Package Page; ComponentLink3URL: http://www.national.com/packaging/folders/mk06a.html
footprint MK06A_N (SOT23, 6-Leads, Body 3.0x1.7mm, Pitch 0.95mm, Lead Span 2.9mm, IPC Medium Density)
footprint MK06A_L (SOT23, 6-Leads, Body 3.0x1.7mm, Pitch 0.95mm, Lead Span 2.9mm, IPC High Density)
footprint MK06A_M (SOT23, 6-Leads, Body 3.0x1.7mm, Pitch 0.95mm, Lead Span 2.9mm, IPC Low Density)
pins: 1 CB (out), 2 GND (power), 3 FB (in), 4 ~{SHDN} (in), 5 VIN (power), 6 SW (power)

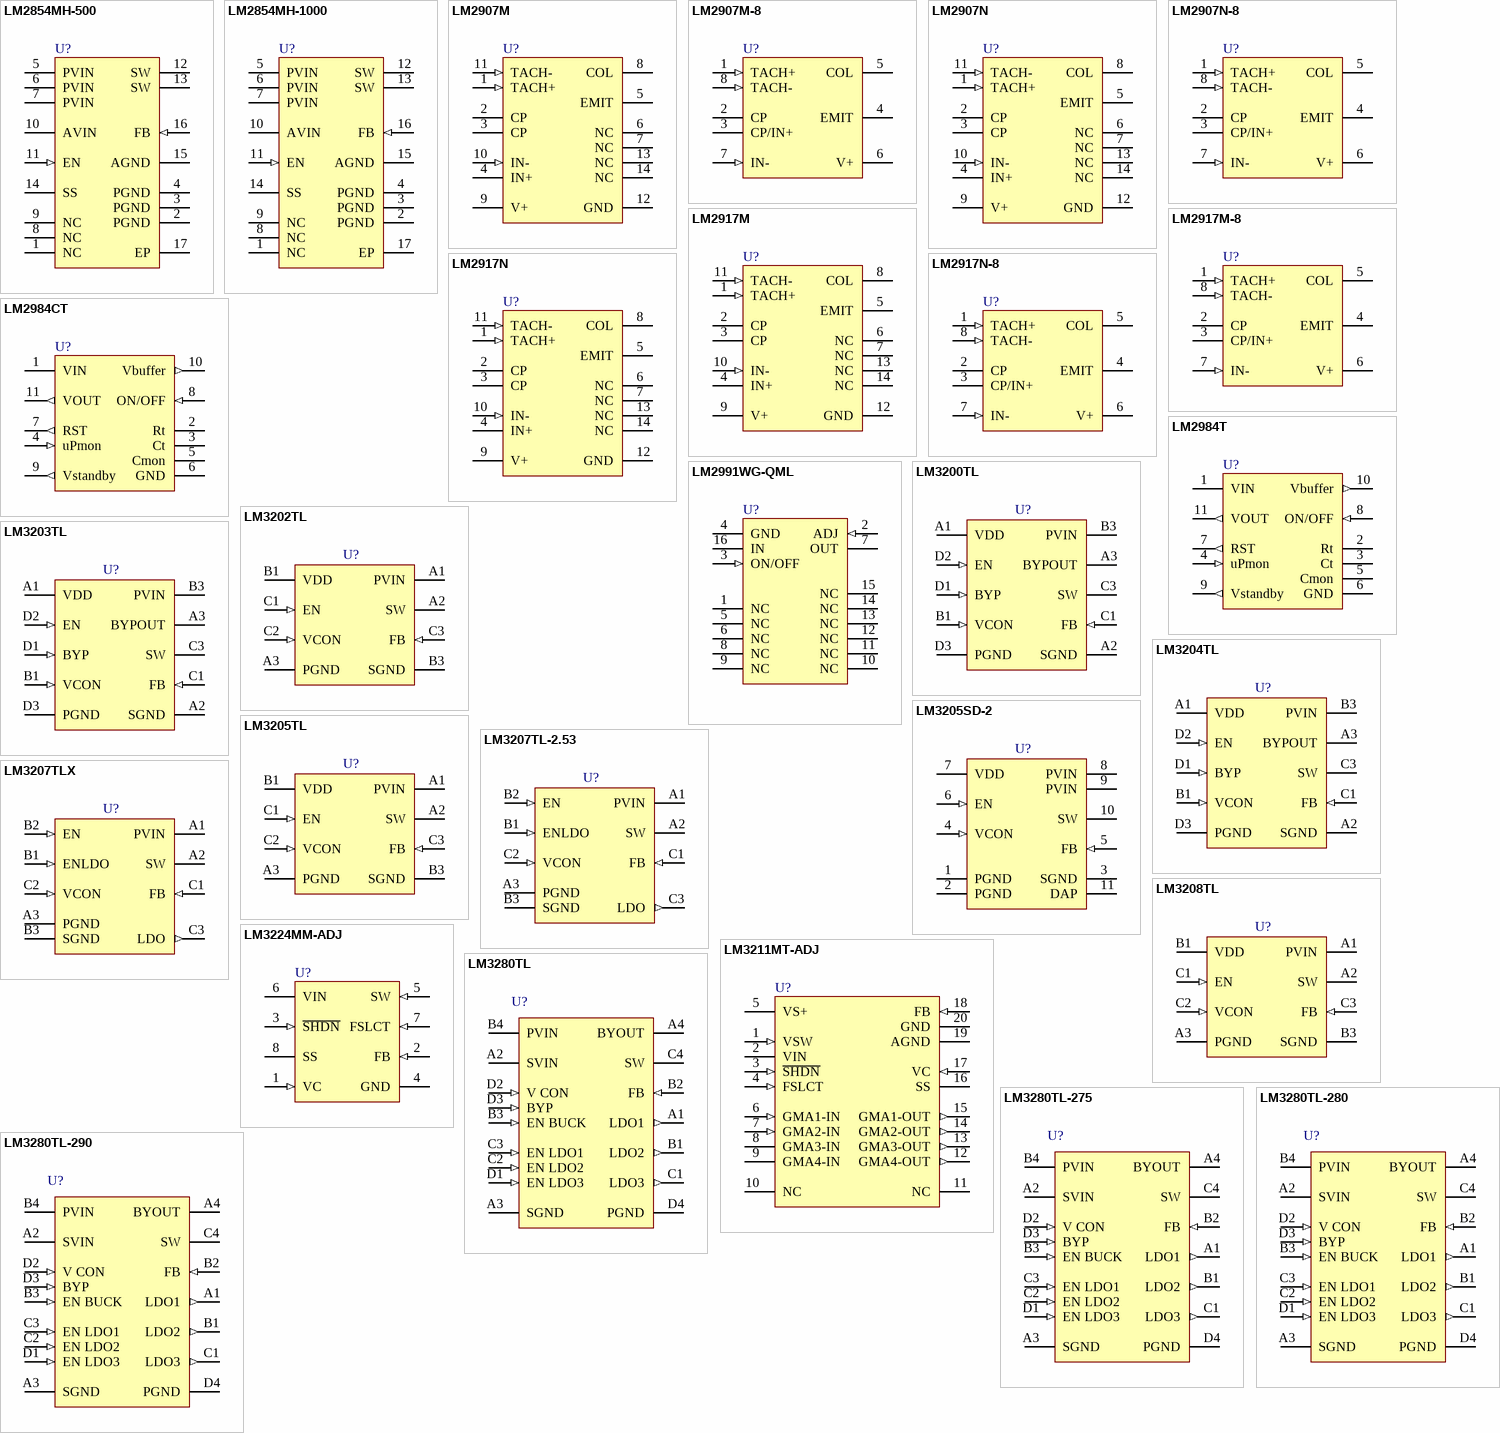
[diagram p6: symbols LM2854MH-500 to LM3280TL-290]

## LM2854MH-500
designator U?
4A 500 kHz / 1 MHz PowerWise Synchronous SIMPLE SWITCHER Buck Regulator; PartNumber: LM2854MH-500; Manufacturer: National Semiconductor; CompType: MiscPower; PackageTopMarking: NSUZXYTT*LM2854*-500; PowerWise: Y; Published: 4-Dec-2008; DatasheetVersion: Apr-2008; PackageVersion: revA, Apr-2003; PackageReference: MXA16A; Publisher: Altium Limited; PackageDescription: Molded TSSOP, Jedec, Exposed Pad, 5.0 x 4.4 x 0.9mm Body,16 Lead, 0.65mm Pitch; RoHS: Y; PinCount: 16; DigiKeyPartNumber: LM2854MH-500-ND; Code_JEDEC: MO-153-ABT; ComponentLink1Description: LM2854 Datasheet; ComponentLink1URL: http://www.national.com/ds/LM/LM2854.pdf; ComponentLink2Description: LM2854 Web Page; ComponentLink2URL: http://www.national.com/pf/LM/LM2854.html; ComponentLink3Description: MXA16A Package Page; ComponentLink3URL: http://www.national.com/packaging/folders/mxa16a.html
footprint MXA16A_N (TSOP, 16-Leads, Body 5x4.4mm, Pitch 0.65mm, Exposed Pad, IPC Medium Density)
footprint MXA16A_L (TSOP, 16-Leads, Body 5x4.4mm, Pitch 0.65mm, Exposed Pad, IPC High Density)
footprint MXA16A_M (TSOP, 16-Leads, Body 5x4.4mm, Pitch 0.65mm, Exposed Pad, IPC Low Density)
pins: 1 NC, 2 PGND (power), 3 PGND (power), 4 PGND (power), 5 PVIN (power), 6 PVIN (power), 7 PVIN (power), 8 NC, 9 NC, 10 AVIN (power), 11 EN (in), 12 SW (power), 13 SW (power), 14 SS, 15 AGND (power), 16 FB (in), 17 EP (power)

## LM2854MH-1000
designator U?
4A 500 kHz / 1 MHz PowerWise Synchronous SIMPLE SWITCHER Buck Regulator; PartNumber: LM2854MH-1000; Manufacturer: National Semiconductor; CompType: MiscPower; PackageTopMarking: NSUZXYTT*LM2854*-1000; PowerWise: Y; Published: 4-Dec-2008; DatasheetVersion: Apr-2008; PackageVersion: revA, Apr-2003; PackageReference: MXA16A; Publisher: Altium Limited; PackageDescription: Molded TSSOP, Jedec, Exposed Pad, 5.0 x 4.4 x 0.9mm Body,16 Lead, 0.65mm Pitch; RoHS: Y; PinCount: 16; DigiKeyPartNumber: LM2854MH-1000-ND; Code_JEDEC: MO-153-ABT; ComponentLink1Description: LM2854 Datasheet; ComponentLink1URL: http://www.national.com/ds/LM/LM2854.pdf; ComponentLink2Description: LM2854 Web Page; ComponentLink2URL: http://www.national.com/pf/LM/LM2854.html; ComponentLink3Description: MXA16A Package Page; ComponentLink3URL: http://www.national.com/packaging/folders/mxa16a.html
footprint MXA16A_N (TSOP, 16-Leads, Body 5x4.4mm, Pitch 0.65mm, Exposed Pad, IPC Medium Density)
footprint MXA16A_L (TSOP, 16-Leads, Body 5x4.4mm, Pitch 0.65mm, Exposed Pad, IPC High Density)
footprint MXA16A_M (TSOP, 16-Leads, Body 5x4.4mm, Pitch 0.65mm, Exposed Pad, IPC Low Density)
pins: 1 NC, 2 PGND (power), 3 PGND (power), 4 PGND (power), 5 PVIN (power), 6 PVIN (power), 7 PVIN (power), 8 NC, 9 NC, 10 AVIN (power), 11 EN (in), 12 SW (power), 13 SW (power), 14 SS, 15 AGND (power), 16 FB (in), 17 EP (power)

## LM2907M
designator U?
Frequency to Voltage Converter; PartNumber: LM2907M; Manufacturer: National Semiconductor; CompType: MiscPower; PackageTopMarking: NSUZXYTT*LM2907M; PowerWise: N; Published: 4-Dec-2008; DatasheetVersion: May-2003; PackageVersion: revJ, Jan-1996; PackageReference: M14A; Publisher: Altium Limited; PackageDescription: Molded Package S.O., .150in Wide, 14 Lead; RoHS: O; PinCount: 14; DigiKeyPartNumber: LM2907M-ND; Code_JEDEC: MS-012AB; Code_IPC: SOIC127P600-14; ComponentLink1Description: LM2907 Datasheet; ComponentLink1URL: http://www.national.com/ds/LM/LM2907.pdf; ComponentLink2Description: LM2907 Web Page; ComponentLink2URL: http://www.national.com/pf/LM/LM2907.html; ComponentLink3Description: M14A Package Page; ComponentLink3URL: http://www.national.com/packaging/folders/m14a.html
footprint M14A_N (SOIC, 14-Leads, Body 8.6x3.9mm, Pitch 1.27mm, IPC Medium Density)
footprint M14A_L (SOIC, 14-Leads, Body 8.6x3.9mm, Pitch 1.27mm, IPC High Density)
footprint M14A_M (SOIC, 14-Leads, Body 8.6x3.9mm, Pitch 1.27mm, IPC Low Density)
pins: 1 TACH+ (in), 2 CP, 3 CP, 4 IN+, 5 EMIT, 6 NC, 7 NC, 8 COL, 9 V+ (power), 10 IN- (in), 11 TACH- (in), 12 GND (power), 13 NC, 14 NC

## LM2907M-8
designator U?
Frequency to Voltage Converter; PartNumber: LM2907M-8; Manufacturer: National Semiconductor; CompType: MiscPower; PackageTopMarking: NSZXTT*LM29*07M-8; PowerWise: N; Published: 4-Dec-2008; DatasheetVersion: May-2003; PackageVersion: revL, Sep-2006; PackageReference: M08A; Publisher: Altium Limited; PackageDescription: SOIC Narrow, 4.9 x 3.9 x 1.45mm, 8 Lead, 1.27mm Pitch; RoHS: Y; PinCount: 8; DigiKeyPartNumber: LM2907M-8-ND; Code_JEDEC: MS-012-AA; Code_IPC: SOIC127P600-8; ComponentLink1Description: LM2907 Datasheet; ComponentLink1URL: http://www.national.com/ds/LM/LM2907.pdf; ComponentLink2Description: LM2907 Web Page; ComponentLink2URL: http://www.national.com/pf/LM/LM2907.html; ComponentLink3Description: M08A Package Page; ComponentLink3URL: http://www.national.com/packaging/folders/m08a.html
footprint M08A_N (SOIC, 8-Leads, Body 4.9x3.9mm, Pitch 1.27mm, IPC Medium Density)
footprint M08A_L (SOIC, 8-Leads, Body 4.9x3.9mm, Pitch 1.27mm, IPC High Density)
footprint M08A_M (SOIC, 8-Leads, Body 4.9x3.9mm, Pitch 1.27mm, IPC Low Density)
pins: 1 TACH+ (in), 2 CP, 3 CP/IN+, 4 EMIT, 5 COL, 6 V+ (power), 7 IN- (in), 8 TACH- (in)

## LM2907N
designator U?
Frequency to Voltage Converter; PartNumber: LM2907N; Manufacturer: National Semiconductor; CompType: MiscPower; PackageTopMarking: NSUZXYYTTE#*LM2907N; PowerWise: N; Published: 4-Dec-2008; DatasheetVersion: May-2003; PackageVersion: revG, May-2006; PackageReference: N14A; Publisher: Altium Limited; PackageDescription: MDIP, .750 x .250 x.130in, 14 Lead, .100in Pitch; RoHS: O; PinCount: 14; DigiKeyPartNumber: LM2907N-ND; Code_JEDEC: MS-001-AA; ComponentLink1Description: LM2907 Datasheet; ComponentLink1URL: http://www.national.com/ds/LM/LM2907.pdf; ComponentLink2Description: LM2907 Web Page; ComponentLink2URL: http://www.national.com/pf/LM/LM2907.html; ComponentLink3Description: N14A Package Page; ComponentLink3URL: http://www.national.com/packaging/folders/n14a.html
footprint N14A (DIP, 14-Leads, Row Spacing 7.62mm, Pitch 2.54mm, Body 19.56x6.35mm)
pins: 1 TACH+ (in), 2 CP, 3 CP, 4 IN+, 5 EMIT, 6 NC, 7 NC, 8 COL, 9 V+ (power), 10 IN- (in), 11 TACH- (in), 12 GND (power), 13 NC, 14 NC

## LM2907N-8
designator U?
Frequency to Voltage Converter; PartNumber: LM2907N-8; Manufacturer: National Semiconductor; CompType: MiscPower; PackageTopMarking: NSUZXYTT*LM*2907N-8; PowerWise: N; Published: 4-Dec-2008; DatasheetVersion: May-2003; PackageVersion: revG, May-2006; PackageReference: N08E; Publisher: Altium Limited; PackageDescription: MDIP, .365 x .250 x .130in, 8 Lead, .100in Pitch; RoHS: O; PinCount: 8; DigiKeyPartNumber: LM2907N-8-ND; Code_JEDEC: MS-001-BA; ComponentLink1Description: LM2907 Datasheet; ComponentLink1URL: http://www.national.com/ds/LM/LM2907.pdf; ComponentLink2Description: LM2907 Web Page; ComponentLink2URL: http://www.national.com/pf/LM/LM2907.html; ComponentLink3Description: N08E Package Page; ComponentLink3URL: http://www.national.com/packaging/folders/n08e.html
footprint N08E (DIP, 8-Leads, Row Spacing 7.62mm, Pitch 2.54mm, Body 9.91x6.35mm)
pins: 1 TACH+ (in), 2 CP, 3 CP/IN+, 4 EMIT, 5 COL, 6 V+ (power), 7 IN- (in), 8 TACH- (in)

## LM2917M
designator U?
Frequency to Voltage Converter; PartNumber: LM2917M; Manufacturer: National Semiconductor; CompType: MiscPower; PackageTopMarking: NSUZXYTT*LM2917M; PowerWise: N; Published: 4-Dec-2008; DatasheetVersion: May-2003; PackageVersion: revJ, Jan-1996; PackageReference: M14A; Publisher: Altium Limited; PackageDescription: Molded Package S.O., .150in Wide, 14 Lead; RoHS: O; PinCount: 14; DigiKeyPartNumber: LM2917M-ND; Code_JEDEC: MS-012AB; Code_IPC: SOIC127P600-14; ComponentLink1Description: LM2917 Datasheet; ComponentLink1URL: http://www.national.com/ds/LM/LM2917.pdf; ComponentLink2Description: LM2917 Web Page; ComponentLink2URL: http://www.national.com/pf/LM/LM2917.html; ComponentLink3Description: M14A Package Page; ComponentLink3URL: http://www.national.com/packaging/folders/m14a.html
footprint M14A_N (SOIC, 14-Leads, Body 8.6x3.9mm, Pitch 1.27mm, IPC Medium Density)
footprint M14A_L (SOIC, 14-Leads, Body 8.6x3.9mm, Pitch 1.27mm, IPC High Density)
footprint M14A_M (SOIC, 14-Leads, Body 8.6x3.9mm, Pitch 1.27mm, IPC Low Density)
pins: 1 TACH+ (in), 2 CP, 3 CP, 4 IN+, 5 EMIT, 6 NC, 7 NC, 8 COL, 9 V+ (power), 10 IN- (in), 11 TACH- (in), 12 GND (power), 13 NC, 14 NC

## LM2917M-8
designator U?
Frequency to Voltage Converter; PartNumber: LM2917M-8; Manufacturer: National Semiconductor; CompType: MiscPower; PackageTopMarking: NSZXTT*LM29*17M-8; PowerWise: N; Published: 4-Dec-2008; DatasheetVersion: May-2003; PackageVersion: revL, Sep-2006; PackageReference: M08A; Publisher: Altium Limited; PackageDescription: SOIC Narrow, 4.9 x 3.9 x 1.45mm, 8 Lead, 1.27mm Pitch; RoHS: O; PinCount: 8; DigiKeyPartNumber: LM2917M-8-ND; Code_JEDEC: MS-012-AA; Code_IPC: SOIC127P600-8; ComponentLink1Description: LM2917 Datasheet; ComponentLink1URL: http://www.national.com/ds/LM/LM2917.pdf; ComponentLink2Description: LM2917 Web Page; ComponentLink2URL: http://www.national.com/pf/LM/LM2917.html; ComponentLink3Description: M08A Package Page; ComponentLink3URL: http://www.national.com/packaging/folders/m08a.html
footprint M08A_N (SOIC, 8-Leads, Body 4.9x3.9mm, Pitch 1.27mm, IPC Medium Density)
footprint M08A_L (SOIC, 8-Leads, Body 4.9x3.9mm, Pitch 1.27mm, IPC High Density)
footprint M08A_M (SOIC, 8-Leads, Body 4.9x3.9mm, Pitch 1.27mm, IPC Low Density)
pins: 1 TACH+ (in), 2 CP, 3 CP/IN+, 4 EMIT, 5 COL, 6 V+ (power), 7 IN- (in), 8 TACH- (in)

## LM2917N
designator U?
Frequency to Voltage Converter; PartNumber: LM2917N; Manufacturer: National Semiconductor; CompType: MiscPower; PackageTopMarking: NSUZXYYTTE#*LM2917N; PowerWise: N; Published: 4-Dec-2008; DatasheetVersion: May-2003; PackageVersion: revG, May-2006; PackageReference: N14A; Publisher: Altium Limited; PackageDescription: MDIP, .750 x .250 x.130in, 14 Lead, .100in Pitch; RoHS: O; PinCount: 14; DigiKeyPartNumber: LM2917N-ND; Code_JEDEC: MS-001-AA; ComponentLink1Description: LM2917 Datasheet; ComponentLink1URL: http://www.national.com/ds/LM/LM2917.pdf; ComponentLink2Description: LM2917 Web Page; ComponentLink2URL: http://www.national.com/pf/LM/LM2917.html; ComponentLink3Description: N14A Package Page; ComponentLink3URL: http://www.national.com/packaging/folders/n14a.html
footprint N14A (DIP, 14-Leads, Row Spacing 7.62mm, Pitch 2.54mm, Body 19.56x6.35mm)
pins: 1 TACH+ (in), 2 CP, 3 CP, 4 IN+, 5 EMIT, 6 NC, 7 NC, 8 COL, 9 V+ (power), 10 IN- (in), 11 TACH- (in), 12 GND (power), 13 NC, 14 NC

## LM2917N-8
designator U?
Frequency to Voltage Converter; PartNumber: LM2917N-8; Manufacturer: National Semiconductor; CompType: MiscPower; PackageTopMarking: NSUZXYTT*LM*2917N-8; PowerWise: N; Published: 4-Dec-2008; DatasheetVersion: May-2003; PackageVersion: revG, May-2006; PackageReference: N08E; Publisher: Altium Limited; PackageDescription: MDIP, .365 x .250 x .130in, 8 Lead, .100in Pitch; RoHS: O; PinCount: 8; DigiKeyPartNumber: LM2917N-8-ND; Code_JEDEC: MS-001-BA; ComponentLink1Description: LM2917 Datasheet; ComponentLink1URL: http://www.national.com/ds/LM/LM2917.pdf; ComponentLink2Description: LM2917 Web Page; ComponentLink2URL: http://www.national.com/pf/LM/LM2917.html; ComponentLink3Description: N08E Package Page; ComponentLink3URL: http://www.national.com/packaging/folders/n08e.html
footprint N08E (DIP, 8-Leads, Row Spacing 7.62mm, Pitch 2.54mm, Body 9.91x6.35mm)
pins: 1 TACH+ (in), 2 CP, 3 CP/IN+, 4 EMIT, 5 COL, 6 V+ (power), 7 IN- (in), 8 TACH- (in)

## LM2984CT
designator U?
Microprocessor Power Supply System; PartNumber: LM2984CT; Manufacturer: National Semiconductor; CompType: MiscPower; PackageTopMarking: NSUZXYTTE#*LM2984CT*P+; PowerWise: N; Published: 4-Dec-2008; DatasheetVersion: May-1989; PackageVersion: revA, Mar-1987; PackageReference: TA11B; Publisher: Altium Limited; PackageDescription: TO-220, Molded, .788 x .421in Body, 11 Lead, .067in Pitch; RoHS: Y; PinCount: 11; DigiKeyPartNumber: LM2984CT-ND; ComponentLink1Description: LM2984C Datasheet; ComponentLink1URL: http://www.national.com/ds/LM/LM2984C.pdf; ComponentLink2Description: LM2984C Web Page; ComponentLink2URL: http://www.national.com/pf/LM/LM2984C.html; ComponentLink3Description: TA11B Package Page; ComponentLink3URL: http://www.national.com/packaging/folders/ta11b.html
footprint TA11B (TO, Thru-Hole, Vertical, Heatsink Mounted; 11 Bent Staggered Leads; Pitch 1.7 mm)
pins: 1 VIN (power), 2 Rt, 3 Ct, 4 uPmon (in), 5 Cmon, 6 GND (power), 7 RST (out), 8 ON/OFF (in), 9 Vstandby (out), 10 Vbuffer (out), 11 VOUT (out)

## LM2984T
designator U?
Microprocessor Power Supply System; PartNumber: LM2984T; Manufacturer: National Semiconductor; CompType: MiscPower; PackageTopMarking: NSUZXYTTE#*LM2984T; PowerWise: N; Published: 4-Dec-2008; DatasheetVersion: Apr-1998; PackageVersion: revA, Mar-1987; PackageReference: TA11B; Publisher: Altium Limited; PackageDescription: TO-220, Molded, .788 x .421in Body, 11 Lead, .067in Pitch; RoHS: N; PinCount: 11; DigiKeyPartNumber: LM2984T-ND; ComponentLink1Description: LM2984 Datasheet; ComponentLink1URL: http://www.national.com/ds/LM/LM2984.pdf; ComponentLink2Description: LM2984 Web Page; ComponentLink2URL: http://www.national.com/pf/LM/LM2984.html; ComponentLink3Description: TA11B Package Page; ComponentLink3URL: http://www.national.com/packaging/folders/ta11b.html
footprint TA11B (TO, Thru-Hole, Vertical, Heatsink Mounted; 11 Bent Staggered Leads; Pitch 1.7 mm)
pins: 1 VIN (power), 2 Rt, 3 Ct, 4 uPmon (in), 5 Cmon, 6 GND (power), 7 RST (out), 8 ON/OFF (in), 9 Vstandby (out), 10 Vbuffer (out), 11 VOUT (out)

## LM2991WG-QML
designator U?
Negative Low Dropout Adjustable Regulator; PartNumber: LM2991WG-QML; Manufacturer: National Semiconductor; CompType: MiscPower; PackageTopMarking: NSZSSXXYYA*LM2991WG-*QML Q 5962-*9650501QXA; PowerWise: N; Published: 4-Dec-2008; DatasheetVersion: Sep-2000; PackageVersion: revE, Jul-2007; PackageReference: WG16A; Publisher: Altium Limited; PackageDescription: Cerpack, .390 x .250 x .070in, 16 Lead, .050in Pitch, Gull Wing; RoHS: N; PinCount: 16; ComponentLink1Description: LM2991 Datasheet; ComponentLink1URL: http://www.national.com/ds/LM/LM2991.pdf; ComponentLink2Description: LM2991 Web Page; ComponentLink2URL: http://www.national.com/pf/LM/LM2991.html; ComponentLink3Description: WG16A Package Page; ComponentLink3URL: http://www.national.com/packaging/folders/wg16a.html
footprint WG16A_N (CERPACK, 16-Leads, Body 9.9x6.5mm, Pitch 1.27mm, IPC Medium Density)
footprint WG16A_L (CERPACK, 16-Leads, Body 9.9x6.5mm, Pitch 1.27mm, IPC High Density)
footprint WG16A_M (CERPACK, 16-Leads, Body 9.9x6.5mm, Pitch 1.27mm, IPC Low Density)
pins: 1 NC, 2 ADJ (in), 3 ON/OFF (in), 4 GND (power), 5 NC, 6 NC, 7 OUT (power), 8 NC, 9 NC, 10 NC, 11 NC, 12 NC, 13 NC, 14 NC, 15 NC, 16 IN (power)

## LM3200TL
designator U?
Miniature, Adjustable, Step-Down DC-DC Converter with Bypass Mode for RF Power Amplifiers; PartNumber: LM3200TL; Manufacturer: National Semiconductor; CompType: MiscPower; PackageTopMarking: XYTT*I SCUB; PowerWise: Y; Published: 4-Dec-2008; DatasheetVersion: Nov-2005; PackageVersion: revD, Mar-2004; PackageReference: TLP10NHA; Publisher: Altium Limited; PackageDescription: Thin Micro SMD, 10 Bump (Large), Periperal, 0.5mm Pitch; RoHS: Y; PinCount: 10; DigiKeyPartNumber: LM3200TLCT-ND; Code_JEDEC: MO-211-BD; ComponentLink1Description: LM3200 Datasheet; ComponentLink1URL: http://www.national.com/ds/LM/LM3200.pdf; ComponentLink2Description: LM3200 Web Page; ComponentLink2URL: http://www.national.com/pf/LM/LM3200.html; ComponentLink3Description: TLP10NHA Package Page; ComponentLink3URL: http://www.national.com/packaging/folders/tlp10nha.html
footprint TLP10NHA (Micro SMD, 10-Leads, Body 2.17x1.82mm, Pitch 0.5mm, NSC Recommended)
pins: A1 VDD (power), A2 SGND (power), A3 BYPOUT (oe), B1 VCON (in), B3 PVIN (power), C1 FB (in), C3 SW, D1 BYP (in), D2 EN (in), D3 PGND (power)